# Altium schematic symbol library DRV8701.Schlib: 1 symbol
Pins are listed as number, name and electrical type; pins without a type are passive.

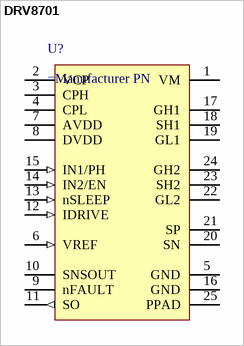
[diagram p0: symbol DRV8701]

## DRV8701
designator U?
BDC H-bridge driver
pins: 1 VM (power), 2 VCP, 3 CPH, 4 CPL, 5 GND (power), 6 VREF (in), 7 AVDD (power), 8 DVDD (power), 9 nFAULT (oc), 10 SNSOUT (oc), 11 SO (out), 12 IDRIVE (in), 13 nSLEEP (in), 14 IN2/EN (in), 15 IN1/PH (in), 16 GND (power), 17 GH1, 18 SH1, 19 GL1, 20 SN, 21 SP, 22 GL2, 23 SH2, 24 GH2, 25 PPAD (power)